# Altium schematic symbol library SeniorDesign_PowerBoard.SCHLIB: 13 symbols
Pins are listed as number, name and electrical type; pins without a type are passive.

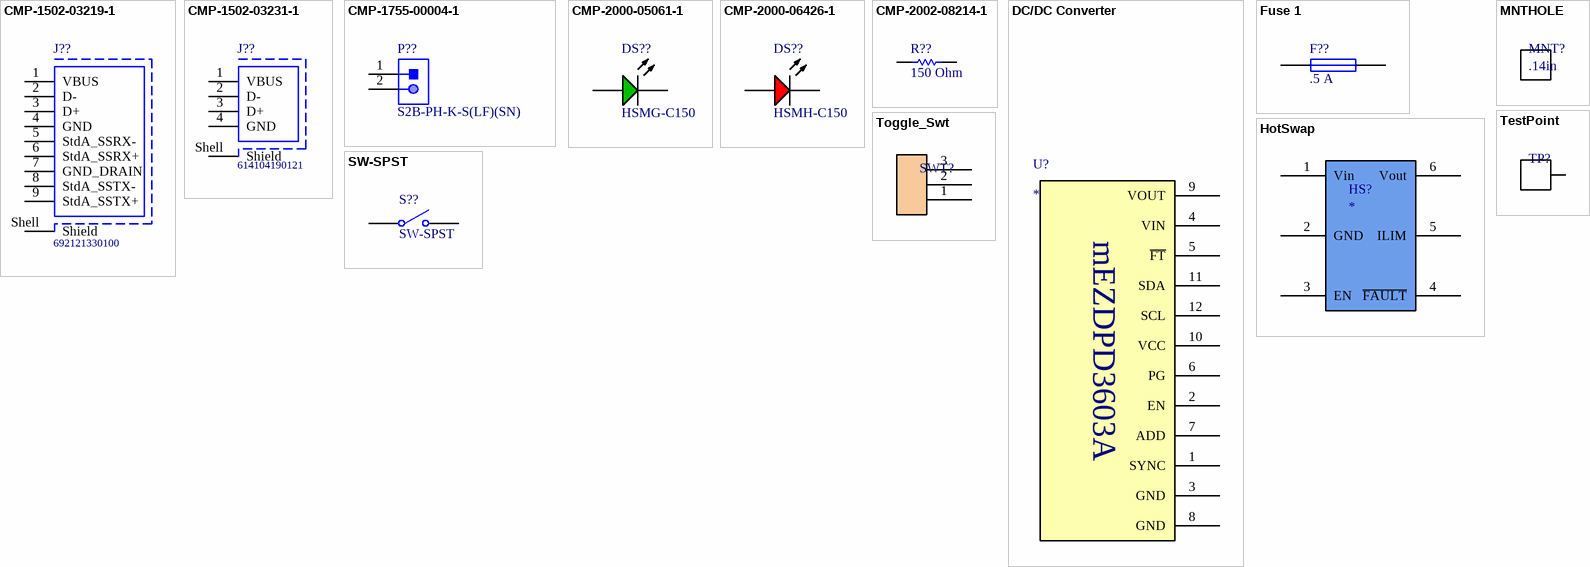
[diagram p0: symbols CMP-1502-03219-1 to Toggle_Swt]

## CMP-1502-03219-1
designator J??, comment 692121330100
USB 3.0 Type A Receptacle WR-COM, Reverse Horizontal, SMT / THT, with Clips, with 1.75 mm Offset; Manufacturer: Wurth Elektronik; Manufacturer: Wurth Electronics; Rated Current: 0.25A; Working Voltage: 30VAC; Contact Resistance: 50mOhm; Package Reference: 692121330100; Operating Temperature: -20to85degC; Datasheet URL: https://katalog.we-online.de/em/datasheet/692121330100.pdf; Part Number: 692121330100; Gender: Receptacle; Connector Type: USB3.0TypeA; Publisher: WurthElektronik; Orientation: ReverseHorizontal; Mounting Technology: SMT/THT; Packaging: TapeandReel; Manufacturer URL: http://www.we-online.de; Manufacturer Part Number: 692121330100
footprint 692121330100 (USB 3.0 Type A Reverse Horizontal with Offset 1.75mm)
pins: 1 VBUS, 2 D-, 3 D+, 4 GND, 5 StdA_SSRX-, 6 StdA_SSRX+, 7 GND_DRAIN, 8 StdA_SSTX-, 9 StdA_SSTX+, Shell Shield

## CMP-1502-03231-1
designator J??, comment 614104190121
USB 2.0 Type A Receptacle WR-COM, Horizontal, THT, Short Type with Clips; Manufacturer: Wurth Elektronik; Manufacturer: Wurth Electronics; Contact Resistance: 30mOhm; Rated Current: 1.5A; Working Voltage: 30VAC; Publisher: WurthElektronik; Operating Temperature: -55to85degC; Part Number: 614104190121; Package Reference: 614104190121; Orientation: Horizontal; Gender: Receptacle; Packaging: TapeandReel; Mounting Technology: THT; Datasheet URL: https://katalog.we-online.de/em/datasheet/614104190121.pdf; Connector Type: USB2.0TypeA; Manufacturer URL: http://www.we-online.de; Manufacturer Part Number: 614104190121
footprint 614104190121 (USB 2.0 Type A Horizontal THT Short Type)
pins: 1 VBUS, 2 D-, 3 D+, 4 GND, Shell Shield

## CMP-1755-00004-1
designator P??, comment S2B-PH-K-S(LF)(SN)  (no BOM)
Male Header, Pitch 2 mm, 1 x 2 Position, Height 4.8 mm, Tail Length 3.4 mm, -25 to 85 degC, RoHS, Bulk; Manufacturer: JST; Case\Package: Radial; Tolerance: 20%; Capacitance: 10 uF; Voltage Rating (DC): 50 V; Packaging: Bulk; ComponentLink1URL: http://www.jst-mfg.com/product/pdf/eng/ePH.pdf; Radiation Hardening: No; Height: 11 mm; Package Quantity: 200; PackageDescription: Male Header, Pitch 2 mm, 1 x 2 Position, Height 4.8 mm, Tail Length 3.4 mm; PackageReference: S2B-PH-K-S; Diameter: 5 mm; Pins: 2; Mount: Through Hole; Max Operating Temperature: 85 degC; Min Operating Temperature: -40 degC; ComponentLink1Description: Datasheet; DatasheetVersion: Dec-12; Length: 11 mm; Lead Pitch: 2 mm; REACH SVHC: No SVHC; Voltage Rating: 50 V; RoHSCompliant: true; Manufacturer Part Number: S2B-PH-K-S(LF)(SN)
footprint JST-S2B-PH-K-S_V (THD, 2-Leads, Body 7.6x5.9mm, Pitch 2mm)
pins: 1, 2

## CMP-2000-05061-1
designator DS??, comment HSMG-C150
Chip LED, Green, 65 mW, 25 mA, -40 to 85 degC, 2-Pin SMD, RoHS, Tape and Reel; Manufacturer: Avago; Manufacturer: Broadcom Avago; Forward Voltage VF Max: 2.6V; Forward Current If Max: 20mA; Bulb Size: 1.6mmx2mm; PIV Max: 5V; Dominant Wavelength: 572nm; External Length / Height: 3.2mm; SVHC: NoSVHC(16-Jun-2014); Viewing Angle: 170deg; Peak Wavelength: 570nm; External Width: 1.6mm; No. of Pins: 2; Luminous Intensity Typ: 15mcd; Light Output Orientation: TopEmitting; LED Type: Standard; Luminous Intensity @ If Min: 4.5mcd; Voltage Vf Min: 2.2V; Lens Shape: Rectangular; External Depth: 1.1mm; Material: GaP; Opto Mounting Orientation: Top; Package Reference: HSMX-C150; Mounting Type: SMD; Datasheet Version: Mar-12; Storage Temperature Max: 85degC; Forward Current If: 20mA; Operating Temperature Min: -30degC; Operating Temperature Max: 85degC; Wavelength Typ: 572nm; Datasheet URL: https://datasheet.ciiva.com/11774/0900766b804a6539-11774272.pdf; Luminous Intensity: 15mcd; Manufacturer URL: http://www.avagotech.com/; Storage Temperature Min: -40degC; Package Description: 2-Pin Surface Mount Device, Body 3.2 x 1.6 mm; MSL: MSL2A-4weeks; LED Colour: Green; Operating Temperature Range: -30degCto+85degC; LED Mounting: SMD; Voltage Vf Typ: 2.2V; Opto Case Style: SMD; Packaging: CutTape; Forward Voltage: 2.2V; Reverse Protection Voltage: 5V; Manufacturer Part Number: HSMG-C150
footprint AVAG-HSMX-C150_V (SMD, 2-Leads, Body 3.2x1.6mm)
pins: 1 A, 2 K

## CMP-2000-06426-1
designator DS??, comment HSMH-C150
LED Uni-Color Red, 65 mW, 25 mA, -40 to 85 degC, 2-Pin SMD, RoHS, Tape and Reel; Manufacturer: Avago; Manufacturer: Broadcom Avago; Product Height (mm): 1.1mm; Power Dissipation: 78W; Product Length (mm): 3.2mm; Forward Voltage: 2.6V; Luminous Intensity: 17mcd; DELETED: Compliant; Shape Type: Rectangular; Peak Wavelength: 660nm; Main Category: ChipLED; Dominant Wave Length: 639nm; Rad Hardened: No; Lens Type: ColorlessDiffused; Product Depth (mm): 1.6mm; Reverse Voltage: 5V; Forward Current: 25mA; Chip Material: GaAlAs; Test Current (It): 20mA; Viewing Angle: 170deg; Number of  Elements: 1; Type: Uni-Color; Package Reference: HSMX-C150; Package Description: 2-Pin Surface Mount Device, Body 3.2 x 1.6 mm; Operating Temp Range: -40Cto85C; Mounting: SurfaceMount; Emitting Color: Red; Pin Count: 2; Operating Temperature Classification: Industrial; Datasheet URL: http://media.digikey.com/pdf/Data%20Sheets/Avago%20PDFs/HSMz-Czzz.pdf; Package Type: ChipLed; Mounting Technology: SurfaceMount; High Brightness: No; Lens Dimensions: 2x1.6x0.6mm; Manufacturer URL: http://www.avagotech.com/; Lum Intensity: 17mcd; Datasheet Version: 03/2012; Packaging: TapeandReel; Manufacturer Part Number: HSMH-C150
footprint AVAG-HSMX-C150_V (SMD, 2-Leads, Body 3.2x1.6mm)
pins: 1 A, 2 K

## CMP-2002-08214-1
designator R??, comment 150 Ohm
Part Number: CRCW0402150RFKED; Manufacturer: Vishay Dale; Manufacturer: Vishay; Manufacturer Part Number: CRCW0402150RFKED
footprint RESC1005X40X25LL05T05 (Chip Resistor, 2-Leads, Body 1.00x0.50mm, IPC High Density)
footprint RESC1005X40X25NL05T05 (Chip Resistor, 2-Leads, Body 1.00x0.50mm, IPC Medium Density)
footprint RESC1005X40X25ML05T05 (Chip Resistor, 2-Leads, Body 1.00x0.50mm, IPC Low Density)
pins: 1, 2
1 alternate drawing of the same symbol

## DC/DC Converter
designator U?
Supplier 1: Digi-Key; Supplier Part Number 1: 1589-1972-ND
footprint DCDC_Reg
pins: 1  SYNC, 2 EN, 3 GND, 4 VIN, 5 ~{FT}, 6 PG, 7 ADD, 8 GND, 9 VOUT, 10 VCC, 11 SDA, 12 SCL
text: mEZDPD3603A

## Fuse 1
designator F??, comment .5 A
Fuse; Published: 8-Jun-2000; LatestRevisionDate: 17-Jul-2002; LatestRevisionNote: Re-released for DXP Platform.; PackageReference: PIN-W2/E2.8; Publisher: Altium Limited; PackageDescription: Thru-Hole; 2 Leads
footprint PIN-W2/E2.8 (Thru-Hole; 2 Leads)
simulation model FUSE (Spice Subcircuit)
pins: 1, 2

## HotSwap
designator HS?
Supplier 1: Digi-Key; Supplier Part Number 1: 1028-1319-1-ND
footprint Hot_Swap
pins: 1 Vin, 2 GND, 3 EN, 4 ~{FAULT}, 5 ILIM, 6 Vout

## MNTHOLE
designator MNT?, comment .14in  (no BOM)
Mounting whole for 1/8" screw
footprint Screw_hole

## SW-SPST
designator S??
Single-Pole, Single-Throw Switch; Published: 24-Mar-1999; LatestRevisionDate: 17-Jul-2002; LatestRevisionNote: Re-released for DXP Platform.; PackageReference: SPST-2; Publisher: Altium Limited; PackageDescription: Switch; 2 Leads
footprint SPST-2 (Switch; 2 Leads)
pins: 1 COMMON, 2 NO

## TestPoint
designator TP?  (no BOM)
Test Point
footprint TestPoint
pins: Power 1

## Toggle_Swt
designator SWT?  (value not drawn)
Supplier 1: Digi-Key; Supplier Part Number 1: 100SP3T1B1M2QE-ND
footprint Toggle_Swt
pins: 1, 2, 3